# Altium footprint library PcbLib.PcbLib: 39 footprints (part 3 of 3)
Each footprint in its own frame and in the unit in brackets; x right, y up, seen from the top. Pads: shape width x height; smd on the part's side, far side on the other; paste and mask are expansions set on the pad; w line width, h text height; cw(c..) or ccw(c..) is an arc to the next point about the centre after c.
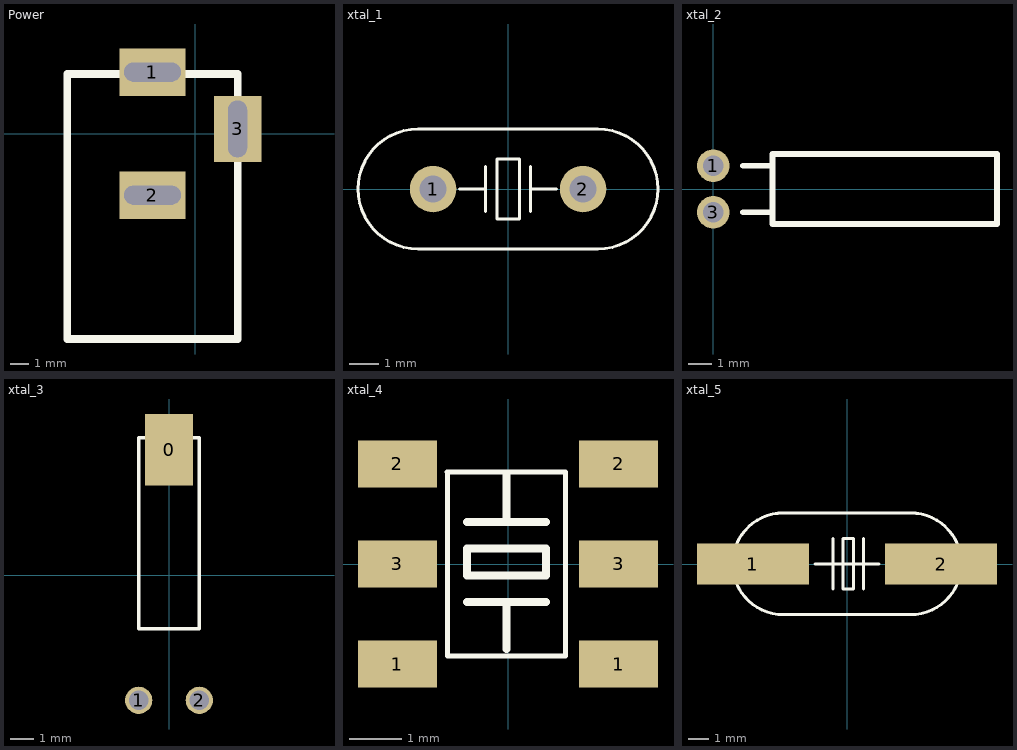
[diagram p2: the footprints below, top view; thin cyan lines are the x and y axes]

## NPN_SOT23 [mm]

## Power [mm]
pads (3):
  rect 3.5x2.5 hole 1 slot 3 at 0 deg: 1(-2.25,3.25) 2(-2.25,-3.25)
  rect 2.5x3.5 hole 1 slot 3 at 90 deg: 3(2.25,0.25)
Top Overlay:
  lines w0.4: -6.75,-10.85 2.25,-10.85 2.25,3.15 -6.75,3.15 -6.75,-10.85

## xtal_1 [mil]
pads (2):
  round 62 hole 35.43: 1(-100,0) 2(100,0)
Top Overlay:
  lines w4: -65,0 -30,0 ; -30,-30 -30,30 ; 30,-30 30,30 ; 30,0 65,0 ; -120,-80 cw(c-120,0) -120,80 120,80 cw(c120,0) 120,-80 -120,-80 ; -15,-40 15,-40 15,40 -15,40 -15,-40

## xtal_2 [mil]
pads (2):
  round 55 hole 35: 1(0,39.37) 3(0,-39.37)
Top Overlay:
  lines w10: 50,-39.37 100,-39.37 ; 50,39.37 100,39.37 ; 100,-59.06 480,-59.06 480,59.06 100,59.06 100,-59.06

## xtal_3 [mil]
pads (3):
  rect 78.74x118.11 smd: 0(0,206.69)
  round 45 hole 32: 1(-50,-206.69) 2(50,-206.69)
Top Overlay:
  lines w6: -50,-88.58 -50,226.38 50,226.38 50,-88.58 -50,-88.58

## xtal_4 [mm]
pads (6):
  rect 1.5x0.9 smd: 1(-2.1,-1.9) 1(2.1,-1.9) 2(-2.1,1.9) 2(2.1,1.9) 3(-2.1,0) 3(2.1,0)
Top Overlay:
  lines w0.1: -1.161,1.75 -1.15,1.739 -1.15,-1.75 1.091,-1.75 1.091,1.75 -1.161,1.75
  lines w0.152: -0.775,-0.722 0.725,-0.722 ; -0.775,0.802 0.725,0.802 ; -0.025,-1.611 -0.025,-0.722 ; -0.025,0.802 -0.025,1.691 ; -0.775,-0.214 0.725,-0.214 0.725,0.294 -0.775,0.294 -0.775,-0.214

## xtal_5 [mil]
pads (2):
  rect 220x80 smd: 1(-185,0) 2(185,0)
Top Overlay:
  lines w6: -66.55,100.39 -31.55,100.39 ; -62.5,0.39 62.5,0.39 ; -27.5,-49.61 -27.5,50.39 ; 28.45,100.39 63.45,100.39 ; 32.5,-49.61 32.5,50.39 ; -125,-99.61 cw(c-125,0.39) -125,100.39 125,100.39 cw(c125,0.39) 125,-99.61 -125,-99.61 ; -7.5,-49.61 12.5,-49.61 12.5,50.39 -7.5,50.39 -7.5,-49.61